# EAGLE library part OCDS_INFINEON (library hsk_2012)
Infineon JTAG programmer / Debugger connector. Pinout according to http://www.keil.com/support/man/docs/ocds166/ocds166_pinout.htm
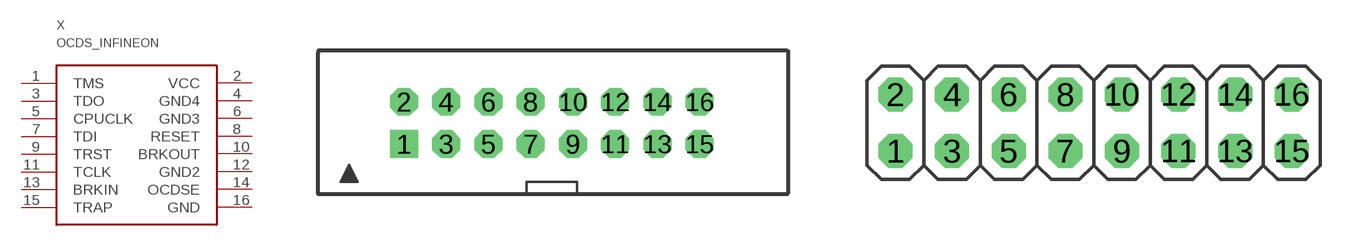
[diagram p6: symbol with the pads of LEIST-16; footprints LEIST-16, 2X08]

Designator prefix X

## OCDS_INFINEON_SEK18  [LEIST-16]
1  TMS
2  VCC
3  TDO
4  GND4
5  CPUCLK
6  GND3
7  TDI
8  RESET
9  TRST
10  BRKOUT
11  TCLK
12  GND2
13  BRKIN
14  OCDSE
15  TRAP
16  GND

## OCDS_INFINEON_PINHD  [2X08]
Pads as for LEIST-16

## OCDS_INFINEON_PINHD_90  [2X08/90]
Pads as for LEIST-16

## Footprint LEIST-16 (pad centres in mm)
drill 0.889 pad 1.676 square: 1 -8.89,-1.27
drill 0.889 pad 1.676 octagon: 2 -8.89,1.27; 3 -6.35,-1.27; 4 -6.35,1.27; 5 -3.81,-1.27; 6 -3.81,1.27; 7 -1.27,-1.27; 8 -1.27,1.27; 9 1.27,-1.27; 10 1.27,1.27; 11 3.81,-1.27; 12 3.81,1.27; 13 6.35,-1.27; 14 6.35,1.27; 15 8.89,-1.27; 16 8.89,1.27

## Footprint 2X08 (pad centres in mm)
PIN HEADER
drill 1.016 octagon: 1 -8.89,-1.27; 2 -8.89,1.27; 3 -6.35,-1.27; 4 -6.35,1.27; 5 -3.81,-1.27; 6 -3.81,1.27; 7 -1.27,-1.27; 8 -1.27,1.27; 9 1.27,-1.27; 10 1.27,1.27; 11 3.81,-1.27; 12 3.81,1.27; 13 6.35,-1.27; 14 6.35,1.27; 15 8.89,-1.27; 16 8.89,1.27

## Footprint 2X08/90 (pad centres in mm)
PIN HEADER
drill 1.016 octagon: 1 -8.89,-6.35; 2 -8.89,-3.81; 3 -6.35,-6.35; 4 -6.35,-3.81; 5 -3.81,-6.35; 6 -3.81,-3.81; 7 -1.27,-6.35; 8 -1.27,-3.81; 9 1.27,-6.35; 10 1.27,-3.81; 11 3.81,-6.35; 12 3.81,-3.81; 13 6.35,-6.35; 14 6.35,-3.81; 15 8.89,-6.35; 16 8.89,-3.81